# Altium schematic symbol library eHorglass.SchLib: 18 symbols
Pins are listed as number, name and electrical type; pins without a type are passive.

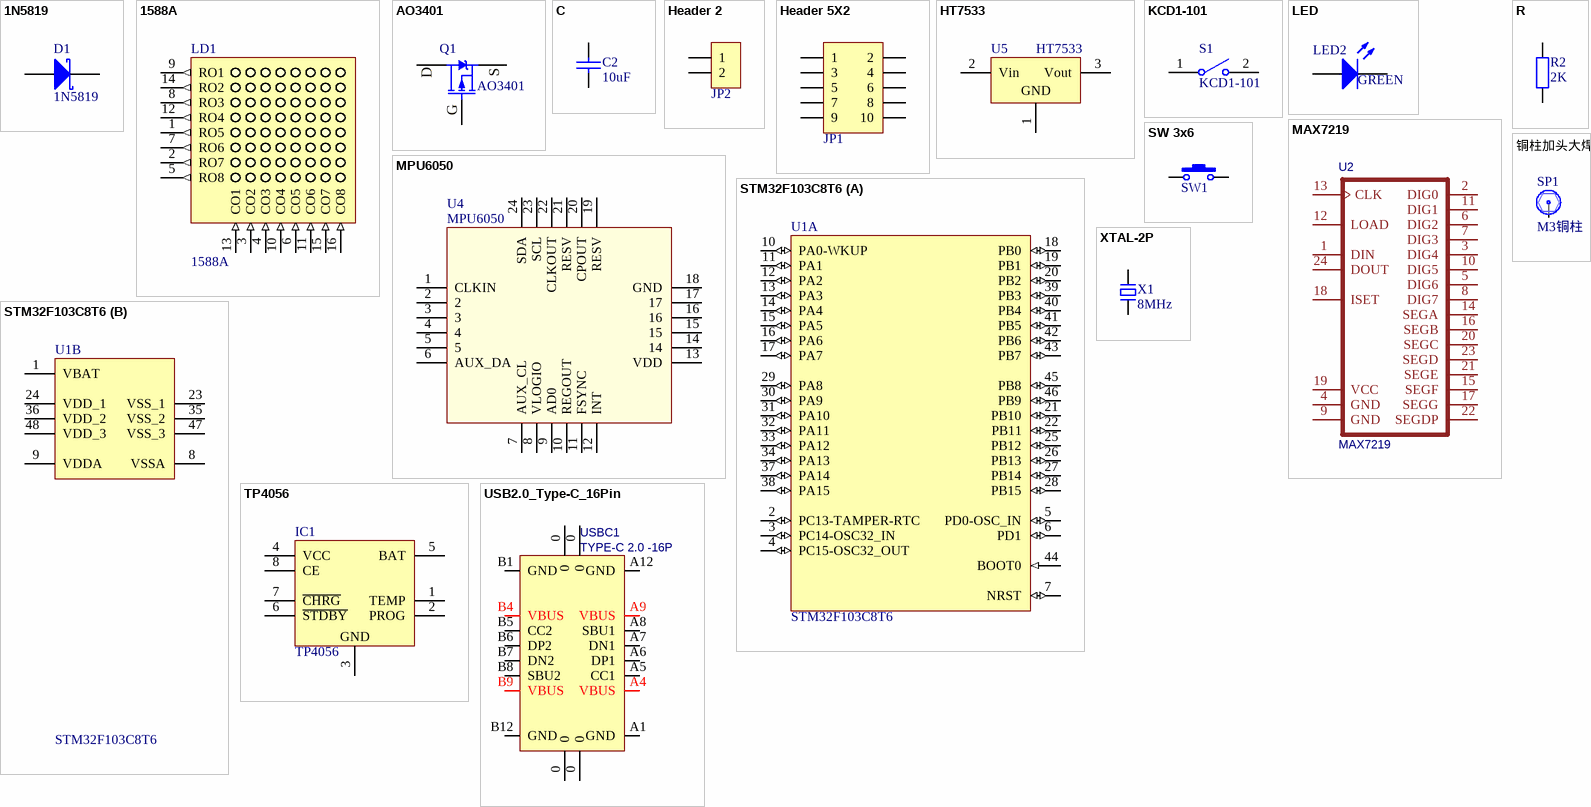
[diagram p0: symbols 1N5819 to 铜柱加头大焊盘]

## 1N5819
designator D1
肖特基二极管; 当前库版本V2022.12.25 @淘宝卖家:黄晶宝石: 最新版本发布https://shop463601444.taobao.com; BOM名称: 肖特基二极管
footprint SOD-323 (1.8x1.3X0.9mm（长宽高，不包括引脚）联系卖家 免费查找封装)
footprint SMA (4.5x2.6*2.2mm（长宽高，不包括引脚）联系卖家 免费查找封装)
pins: 1 A, 2 K

## 1588A
designator LD1
共阴单色LED8*8点阵屏; 联系卖家 免费技术支持: 唯一出售店铺网址https://shop463601444.taobao.com; BOM名称: 共阴单色LED8*8点阵屏
footprint LED 8*8-32-FH
pins: 1 RO5 (out), 2 RO7 (out), 3 CO2 (in), 4 CO3 (in), 5 RO8 (out), 6 CO5 (in), 7 RO6 (out), 8 RO3 (out), 9 RO1 (out), 10 CO4 (in), 11 CO6 (in), 12 RO4 (out), 13 CO1 (in), 14 RO2 (out), 15 CO7 (in), 16 CO8 (in)

## AO3401
designator Q1
P沟道 30V/4.2A; BOM名称: 场效应管; 联系下单店铺卖家 免费帮你查找封装: 联系下单店铺卖家 免费技术支持; 参数: P沟道 30V/4.2A
footprint SOT23-3N (SOT23, 3-Leads, Body 2.9x1.3mm, Pitch 0.95mm, Lead Span 2.4mm, IPC Medium Density)
footprint SOT23-3L (SOT23, 3-Leads, Body 2.9x1.3mm, Pitch 0.95mm, Lead Span 2.4mm, IPC High Density)
footprint SOT23-3M (SOT23, 3-Leads, Body 2.9x1.3mm, Pitch 0.95mm, Lead Span 2.4mm, IPC Low Density)
pins: 1 G, 2 S, 3 D

## C
designator C2, comment 10uF
贴片电容/MLCC电容; BOM名称: 无极性贴片电容; 联系下单店铺卖家 免费帮你查找封装: 联系下单店铺卖家 免费技术支持
footprint C0201_L (贴片MLCC电容)
footprint C0402_L (贴片MLCC电容)
footprint C0603_L (贴片MLCC电容)
footprint C0805_L (贴片MLCC电容)
footprint C1206_L (贴片MLCC电容)
footprint C1210_L (贴片MLCC电容)
footprint C1808_L (贴片MLCC电容)
footprint C1812_L (贴片MLCC电容                  联系卖家 免费查找封装)
footprint C1825_L (贴片MLCC电容)
footprint C2225_L (贴片MLCC电容)
footprint C0201_M (贴片MLCC电容                联系卖家 免费查找封装)
footprint C0402_M (贴片MLCC电容)
footprint C0402_M (贴片MLCC电容)
footprint C0805_M (贴片MLCC电容)
footprint C1206_M (贴片MLCC电容)
footprint C1210_M (贴片MLCC电容)
footprint C1808_M (贴片MLCC电容)
footprint C1812_M (贴片MLCC电容)
footprint C1825_M (贴片MLCC电容      联系卖家 免费查找封装)
footprint C2225_M (贴片MLCC电容)
footprint C0201_NS (贴片MLCC电容-无丝印)
footprint C0402_NS (贴片MLCC电容-无丝印)
footprint C01005_NS (贴片MLCC电容-无丝印)
footprint C0805_NS (贴片MLCC电容-无丝印)
footprint C1206_NS (贴片MLCC电容-无丝印)
footprint C1210_NS (贴片MLCC电容 -无丝印)
footprint C0603_NS (贴片MLCC电容-无丝印)
footprint C0204_NS (贴片MLCC电容-无丝印)
footprint C1111_NS (贴片MLCC电容-无丝印)
footprint C2220 (贴片MLCC电容)
footprint C3838 (贴片MLCC电容-无丝印)
footprint C0402_M (贴片MLCC电容)
footprint C0603_M (贴片MLCC电容)
pins: 1, 2

## Header 2
designator JP2, comment HDR-1X2  (value not drawn)
2P接插件; 联系卖家，免费查找封装: 唯一出售店铺网址https://shop463601444.taobao.com; 封装库来自淘宝卖家ID：黄晶宝石: 其他店铺购入均为盗版封装库，请立即申请退款，本店现金奖励50~200元; BOM名称: 2P接插件
footprint XH2.54-W-2P (接插件，2P)
footprint XH2.54-LI-2P (接插件，2P)
footprint HDR2.54-LI-2P (排针，2脚 封装库来自淘宝卖家 ID：黄晶宝石)
footprint HDR2.54-M-LI-2P (排母，2脚)
footprint HDR2.54-WI-2P (弯脚排针，2脚)
footprint HDR2.54-WS-2P (2P卧式贴片排针2.54)
footprint HDR2.54-Y-LI-2P (圆孔排母，2脚)
footprint HDR2.54-M-WT-2P (2P卧式贴片排母2.54)
footprint KF2510-LI-2P (接插件/2A)
footprint XH2.54-WT-2P (长：10mm，宽：8mm，高：6.1mm)
footprint XH2.54-LS-2P (长：10mm，宽：6mm，高：8.3mm)
footprint KF2EDGK-2.54-LI-2P (长：6.93mm，宽：8.1mm，高：10.1mm)
footprint KF2EDGK-2.54-WI-2P (长：6.93mm，宽：10.1mm，高：8.1mm)
pins: 1, 2

## Header 5X2
designator JP1  (value not drawn)
5*2P接插件; 联系卖家，免费查找封装: 唯一出售店铺网址https://shop463601444.taobao.com; 封装库来自淘宝卖家ID：黄晶宝石: 其他店铺购入均为盗版封装库，请立即申请退款，本店现金奖励50~200元; BOM名称: 5*2P接插件
footprint IDC2.54-LI-2x5P (10P简易牛角座)
footprint HDR2.54-LI-2x5P (双排排针，5x2脚)
footprint HDR2.54-M-LS-2x5P (脚距：2.54mm，贴片双排母)
footprint HDR2.54-WI-2x5P (双排弯脚排针，5x2脚)
footprint HDR2.54-LI-2x5P (双排排针，5x2脚)
pins: 1, 2, 3, 4, 5, 6, 7, 8, 9, 10

## HT7533
designator U5
LDO线性稳压芯片; 当前库版本V2022.12.25 @淘宝卖家:黄晶宝石: 最新版本发布https://shop463601444.taobao.com; BOM名称: HT7533
footprint SOT89_N (4.6x4.3x1.6mm(长宽高))
pins: 1 GND, 2 Vin, 3 Vout

## KCD1-101
designator S1
1路单刀船型开关; 联系下单店铺卖家 免费技术支持: 联系下单店铺卖家 免费帮你查找封装; BOM名称: 1路单刀船型开关
footprint HDR2.54-LI-2P (排针，2脚                         联系卖家 免费查找封装)
pins: 1, 2

## LED
designator LED2, comment GREEN
贴片LED; 封装库来自淘宝卖家：黄晶宝石: 其他店铺购入均为盗版封装库，无更新权益，退款现金奖励200~1000元; BOM名称: 贴片LED
footprint LED0603_W (白色0603LED)
footprint LED0603_R (红色0603LED)
footprint LED0603_B (蓝色0603LED)
footprint LED0603_G (绿色0603LED)
footprint LED0603_Y (黄色0603LED)
footprint LED0805_G (绿色0805LED)
footprint LED0805_R (红色0805LED)
footprint LED0805_B (蓝色0805LED)
footprint LED0805_Y (黄色0805LED)
footprint LED 3528-2Pin (2脚，3528LED)
footprint LED1206_G (绿色1206LED)
footprint LED 5730-V (紫色5730LED)
footprint LED1206_Y (黄色1206LED)
footprint LED0805_W (白色0805LED)
footprint LED1206_B (蓝色1206LED)
footprint LED1206_W (白色1206LED)
footprint LED1206_R (红色1206LED)
footprint LED0402_B (蓝色0402LED)
footprint LED0402_G (绿色0402LED)
footprint LED0402_R (红色0402LED)
footprint LED0402_W (白色0402LED)
footprint LED0402_Y (黄色0402LED)
footprint LED0201 (0201 LED)
pins: 1 A, 2 K

## MAX7219
designator U2
8位 LED驱动器; 封装库来自淘宝卖家：黄晶宝石: 其他店铺购入均为盗版封装库，无更新权益，退款现金奖励200~1000元; 当前库版本V2022.12.25 @淘宝卖家:黄晶宝石: 最新版本发布https://shop463601444.taobao.com
footprint SOIC-24W (封装库来自淘宝卖家 ID：黄晶宝石)
pins: 1 DIN, 2 DIG0, 3 DIG4, 4 GND, 5 DIG6, 6 DIG2, 7 DIG3, 8 DIG7, 9 GND, 10 DIG5, 11 DIG1, 12 LOAD, 13 CLK, 14 SEGA, 15 SEGF, 16 SEGB, 17 SEGG, 18 ISET, 19 VCC, 20 SEGC, 21 SEGE, 22 SEGDP, 23 SEGD, 24 DOUT

## MPU6050
designator U4
三轴加速度+三轴陀螺仪; 封装库来自淘宝卖家：黄晶宝石: 其他店铺购入均为盗版封装库，请立即申请退款，本店现金奖励100~500元
footprint QFN24-P50 (4mm*4mm 封装库来自淘宝卖家 ID：黄晶宝石)
pins: 1 CLKIN, 2, 3, 4, 5, 6 AUX_DA, 7 AUX_CL, 8 VLOGIO, 9 AD0, 10 REGOUT, 11 FSYNC, 12 INT, 13 VDD, 14, 15, 16, 17, 18 GND, 19 RESV, 20 CPOUT, 21 RESV, 22 CLKOUT, 23 SCL, 24 SDA

## R
designator R2, comment 2K
贴片电阻; 当前库版本V2022.10.7 @黄晶宝石: 最新版本发布https://shop463601444.taobao.com; BOM名称: 贴片电阻
footprint R0201_L (1/20W贴片电阻)
footprint R0402_L (1/16W贴片电阻)
footprint R0603_L (1/10W贴片电阻)
footprint R0805_L (1/8W贴片电阻)
footprint R1206_L (1/4W贴片电阻)
footprint R1210_L (1/3W贴片电阻)
footprint R1812_L (1/2W贴片电阻)
footprint R2010_L (3/4W贴片电阻)
footprint R2512_L (1W贴片电阻)
footprint R0201_M (1/20W贴片电阻)
footprint R0402_M (1/16W贴片电阻)
footprint R0603_M (1/10W贴片电阻)
footprint R0805_M (1/8W贴片电阻)
footprint R1206_M (1/4W贴片电阻)
footprint R1210_M (1/3W贴片电阻)
footprint R1812_M (1/2W贴片电阻)
footprint R2010_M (3/4W贴片电阻)
footprint R2512_M (1W贴片电阻)
footprint R0201_NS (1/20W贴片电阻-无丝印)
footprint R0402_NS (1/16W贴片电阻-无丝印)
footprint R01005_NS (1/32W贴片电阻-无丝印)
footprint R0603_NS (1/10W贴片电阻-无丝印)
footprint R0805_NS (1/8W贴片电阻-无丝印)
footprint R1206_NS (1/4W贴片电阻-无丝印)
footprint R1210_NS (1/3W贴片电阻)
footprint R0603_M (1/10W贴片电阻)
footprint R0402_M (1/16W贴片电阻)
footprint R0603_M (1/10W贴片电阻)
pins: 1, 2

## STM32F103C8T6
designator U1
STM32 ARM-based 32-bit MCU Performance Line with 64 kB Flash, 20 kB Internal RAM, -40 to +85癈 Temperature, 48-Pin LQFP, Tray; 封装库来自淘宝卖家：黄晶宝石: 最新版本发布https://shop463601444.taobao.com; DatasheetVersion: rev13.0, Apr-2011; PackageVersion: rev13, Apr-2011; PackageReference: LQFP48; PackageDescription: 48-Pin Low-Profile Quad Flat Pack, 7 x 7 mm Body, 0.5 mm Pitch (LQFP48); ComponentLink1Description: Manufacturer URL; ComponentLink1URL: http://www.st.com/; ComponentLink2Description: STM32F103 Datasheet; ComponentLink2URL: http://www.st.com/internet/com/TECHNICAL_RESOURCES/TECHNICAL_LITERATURE/DATASHEET/CD00161566.pdf; ComponentLink3Description: STM32 Family Web Page; ComponentLink3URL: www.st.com/stm32
footprint LQFP48_N (Thin QFP, 48-Leads, Body 7x7mm, Pitch 0.5mm, IPC Medium Density)
footprint LQFP48_L (Thin QFP, 48-Leads, Body 7x7mm, Pitch 0.5mm, IPC High Density)
footprint LQFP48_M (Thin QFP, 48-Leads, Body 7x7mm, Pitch 0.5mm, IPC Low Density)
part A pins: 2 PC13-TAMPER-RTC (io), 3 PC14-OSC32_IN (io), 4 PC15-OSC32_OUT (io), 5 PD0-OSC_IN (io), 6 PD1 (io), 7 NRST (io), 10 PA0-WKUP (io), 11 PA1 (io), 12 PA2 (io), 13 PA3 (io), 14 PA4 (io), 15 PA5 (io), 16 PA6 (io), 17 PA7 (io), 18 PB0 (io), 19 PB1 (io), 20 PB2 (io), 21 PB10 (io), 22 PB11 (io), 25 PB12 (io), 26 PB13 (io), 27 PB14 (io), 28 PB15 (io), 29 PA8 (io), 30 PA9 (io), 31 PA10 (io), 32 PA11 (io), 33 PA12 (io), 34 PA13 (io), 37 PA14 (io), 38 PA15 (io), 39 PB3 (io), 40 PB4 (io), 41 PB5 (io), 42 PB6 (io), 43 PB7 (io), 44 BOOT0 (in), 45 PB8 (io), 46 PB9 (io)
part B pins: 1 VBAT (power), 8 VSSA (power), 9 VDDA (power), 23 VSS_1 (power), 24 VDD_1 (power), 35 VSS_2 (power), 36 VDD_2 (power), 47 VSS_3 (power), 48 VDD_3 (power)

## SW 3x6
designator SW1, comment 3x6x5  (value not drawn)
3x6轻触开关; 联系下单店铺卖家 免费技术支持: 联系下单店铺卖家 免费帮你查找封装; BOM名称: 3x6轻触开关
footprint SW SMD-3*6*2.5 (3*6*2.5mm)
footprint SW DIP-3*6*5_V (侧按轻触开关 3*6*5mm)
footprint SW DIP-3*6*4.3 (3*6*4.3mm)
footprint SW DIP-3*6*4.3_V (侧按轻触开关 3*6*4.3mm)
footprint SW DIP-3*6*5 (3*6*5mm)
footprint SW SMD-3*6*4.3 (3*6*4.3mm)
footprint SW SMD-3*6*5 (3*6*5mm)
footprint SW 3*6*4.3-S-W (侧立贴片3*6*4.3)
pins: 1, 2

## TP4056
designator IC1
锂电池充电管理; 当前库版本V2022.10.7 @淘宝卖家:黄晶宝石: 最新版本发布https://shop463601444.taobao.com; BOM名称: 锂电池充电管理
footprint SOIC-8_EP (5*6*1.8mm（长宽高）封装库来自淘宝卖家 ID：黄晶宝石)
pins: 1 TEMP, 2 PROG, 3 GND, 4 VCC, 5 BAT, 6 ~{STDBY}, 7 ~{CHRG}, 8 CE

## USB2.0_Type-C_16Pin
designator USBC1, comment TYPE-C 2.0 -16P
USB2.0_Type-C_16Pin母座; 当前库版本V2022.12.25 @淘宝卖家:黄晶宝石: 最新版本发布https://shop463601444.taobao.com
footprint USB-C-SMD_16P (封装库来自淘宝ID:黄晶宝石)
pins: 0, 0, 0, 0, A1 GND, A4 VBUS, A5 CC1, A6 DP1, A7 DN1, A8 SBU1, A9 VBUS, A12 GND, B1 GND, B4 VBUS, B5 CC2, B6 DP2, B7 DN2, B8 SBU2, B9 VBUS, B12 GND

## XTAL-2P
designator X1, comment 8MHz
2脚无源晶振(谐振器）; 联系下单店铺卖家 免费帮你查找封装: 联系下单店铺卖家 免费技术支持; BOM名称: 2脚无源晶振(谐振器）
footprint OSC-5032-2P (5mm*3.2mm*0.8mm(长*宽*高))
footprint XTAL-455E-LI (3.6mm*7mm*9mm(长*宽*高)  脚距5mm)
footprint XTAL-455E-WI (3.6mm*7mm*9mm(长*宽*高)  脚距5mm)
footprint XTAL-3215-2P (3.2*1.5*0.6mm(长宽高))
footprint XTAL-5032-2P (5mm*3.2mm*0.8mm(长*宽*高))
footprint XTAL-6035-2P (6mm*3.5mm*1mm(长*宽*高))
footprint XTAL-7050-2P (7mm*5mm*1.3mm(长*宽*高))
footprint XTAL-8045-2P (8mm*4.5mm*1.8mm(长*宽*高)                 淘宝ID:黄晶宝石)
footprint XTAL-2x6-LI (脚距：1.6mm)
footprint XTAL-2x6-WI-A (脚距：1.6mm)
footprint XTAL-2x6-WI-B (脚距：1.6mm)
footprint XTAL-2x6-WS (脚距：1.6mm       封装库来自淘宝卖家 ID：黄晶宝石)
footprint XTAL-3x8-LI (脚距：2mm)
footprint XTAL-3x8-WI-A (脚距：2mm)
footprint XTAL-3x8-WI-B (脚距：2mm)
footprint XTAL-3x8-WS (脚距：2mm)
footprint XTAL-3x10-LI (脚距：2mm)
footprint XTAL-3x10-WI-A (脚距：2mm)
footprint XTAL-3x10-WI-B (脚距：2mm)
footprint XTAL-3x10-WS (脚距：2mm)
footprint HC-49SMD (封装库来自淘宝卖家 ID：黄晶宝石)
footprint HC-49U (封装库来自淘宝卖家 ID：黄晶宝石)
footprint XTAL-UM-1 (封装库来自淘宝卖家 ID：黄晶宝石)
footprint XTAL-UM-5
pins: 1, 2

## 铜柱加头大焊盘
designator SP1, comment M3铜柱
铜柱; 联系下单店铺卖家 免费技术支持: 联系下单店铺卖家 免费帮你查找封装; BOM名称: 铜柱
footprint M3x15+6_N (M3铜柱，长：15mm，螺纹长：6mm)
footprint M3x5+6_N (M3铜柱，长：5mm，螺纹长：6mm)
footprint M3x6+6_N (M3铜柱，长：6mm，螺纹长：6mm)
footprint M3x7+6_N (M3铜柱，长：7mm，螺纹长：6mm)
footprint M3x8+6_N (M3铜柱，长：8mm，螺纹长：6mm)
footprint M3x9+6_N (M3铜柱，长：9mm，螺纹长：6mm)
footprint M3x10+6_N (M3铜柱，长：10mm，螺纹长：6mm)
footprint M3x11+6_N (M3铜柱，长：11mm，螺纹长：6mm)
footprint M3x12+6_N (M3铜柱，长：12mm，螺纹长：6mm)
footprint M3x13+6_N (M3铜柱，长：13mm，螺纹长：6mm)
footprint M3x14+6_N (M3铜柱，长：14mm，螺纹长：6mm)
footprint M3x15+6_N (M3铜柱，长：15mm，螺纹长：6mm)
footprint M3x16+6_N (M3铜柱，长：16mm，螺纹长：6mm)
footprint M3x17+6_N (M3铜柱，长：17mm，螺纹长：6mm)
footprint M3x18+6_N (M3铜柱，长：18mm，螺纹长：6mm)
footprint M3x19+6_N (M3铜柱，长：19mm，螺纹长：6mm)
footprint M3x20+6_N (M3铜柱，长：20mm，螺纹长：6mm)
footprint M3x21+6_N (M3铜柱，长：21mm，螺纹长：6mm)
footprint M3x22+6_N (M3铜柱，长：22mm，螺纹长：6mm)
footprint M3x23+6_N (M3铜柱，长：23mm，螺纹长：6mm)
footprint M3x24+6_N (M3铜柱，长：24mm，螺纹长：6mm)
footprint M3x25+6_N (M3铜柱，长：25mm，螺纹长：6mm)
footprint M3x26+6_N (M3铜柱，长：26mm，螺纹长：6mm)
footprint M3x27+6_N (M3铜柱，长：27mm，螺纹长：6mm)
footprint M3x28+6_N (M3铜柱，长：28mm，螺纹长：6mm)
footprint M3x30+6_N (M3铜柱，长：30mm，螺纹长：6mm)
footprint M3x32+6_N (M3铜柱，长：32mm，螺纹长：6mm)
footprint M3x35+6_N (M3铜柱，长：35mm，螺纹长：6mm)
footprint M3x40+6_N (M3铜柱，长：40mm，螺纹长：6mm)
footprint M3x45+6_N (M3铜柱，长：45mm，螺纹长：6mm)
footprint M3x50+6_N (M3铜柱，长：50mm，螺纹长：6mm)
footprint M3x55+6_N (M3铜柱，长：55mm，螺纹长：6mm)
footprint M3x60+6_N (M3铜柱，长：60mm，螺纹长：6mm)
footprint M3x65+6_N (M3铜柱，长：65mm，螺纹长：6mm)
pins: 1